# EAGLE library part ATMEGA8-PU (library Arduino-AVR)
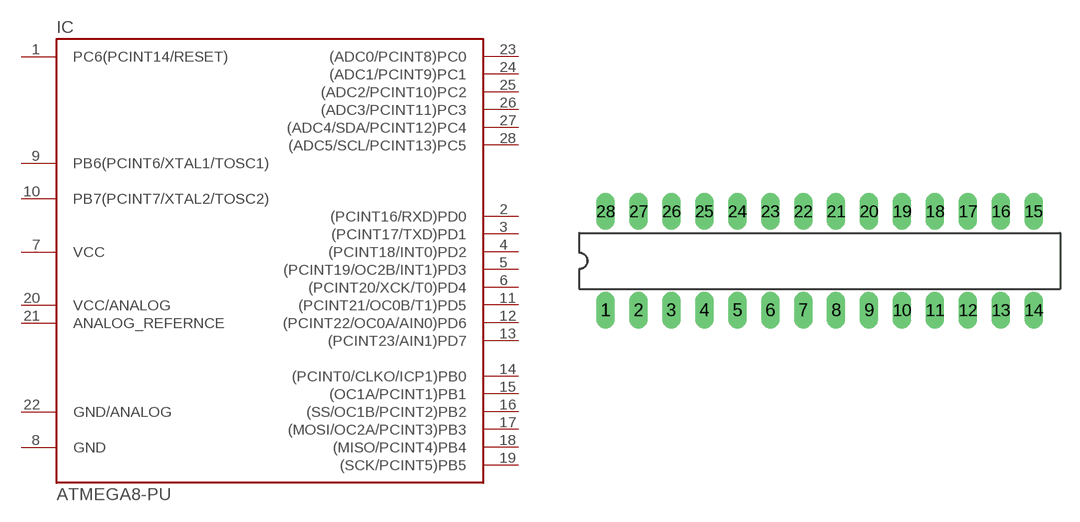
[diagram p1: symbol with the pads of DIL28-3; footprint DIL28-3]

Designator prefix IC

## ATMEGA8-PU  [DIL28-3]
1  PC6(PCINT14/RESET)
2  (PCINT16/RXD)PD0
3  (PCINT17/TXD)PD1
4  (PCINT18/INT0)PD2
5  (PCINT19/OC2B/INT1)PD3
6  (PCINT20/XCK/T0)PD4
7  VCC  pwr
8  GND  pwr
9  PB6(PCINT6/XTAL1/TOSC1)
10  PB7(PCINT7/XTAL2/TOSC2)
11  (PCINT21/OC0B/T1)PD5
12  (PCINT22/OC0A/AIN0)PD6
13  (PCINT23/AIN1)PD7
14  (PCINT0/CLKO/ICP1)PB0
15  (OC1A/PCINT1)PB1
16  (SS/OC1B/PCINT2)PB2
17  (MOSI/OC2A/PCINT3)PB3
18  (MISO/PCINT4)PB4
19  (SCK/PCINT5)PB5
20  VCC/ANALOG  pas
21  ANALOG_REFERNCE  pas
22  GND/ANALOG  pwr
23  (ADC0/PCINT8)PC0
24  (ADC1/PCINT9)PC1
25  (ADC2/PCINT10)PC2
26  (ADC3/PCINT11)PC3
27  (ADC4/SDA/PCINT12)PC4
28  (ADC5/SCL/PCINT13)PC5

## Footprint DIL28-3 (pad centres in mm)
Dual In Line 0.3 inch
drill 0.914 long: 1 -16.51,-3.81; 2 -13.97,-3.81; 3 -11.43,-3.81; 4 -8.89,-3.81; 5 -6.35,-3.81; 6 -3.81,-3.81; 7 -1.27,-3.81; 8 1.27,-3.81; 9 3.81,-3.81; 10 6.35,-3.81; 11 8.89,-3.81; 12 11.43,-3.81; 13 13.97,-3.81; 14 16.51,-3.81; 15 16.51,3.81; 16 13.97,3.81; 17 11.43,3.81; 18 8.89,3.81; 19 6.35,3.81; 20 3.81,3.81; 21 1.27,3.81; 22 -1.27,3.81; 23 -3.81,3.81; 24 -6.35,3.81; 25 -8.89,3.81; 26 -11.43,3.81; 27 -13.97,3.81; 28 -16.51,3.81